# EAGLE library part PIN_HEADER_MALE_1X08_08P (library 180118 Library by matsu)
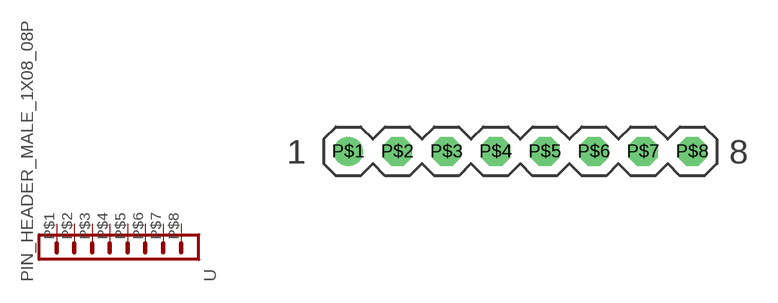
[diagram p44: symbol with the pads of PIN_HEADER_MALE_1X08_08P; footprint PIN_HEADER_MALE_1X08_08P]

Designator prefix -

## PIN_HEADER_MALE_1X08_08P  [PIN_HEADER_MALE_1X08_08P]
P$1  1
P$2  2
P$3  3
P$4  4
P$5  5
P$6  6
P$7  7
P$8  8

## Footprint PIN_HEADER_MALE_1X08_08P (pad centres in mm)
drill 1: P$1 -8.89,0
drill 1 octagon: P$2 -6.35,0; P$3 -3.81,0; P$4 -1.27,0; P$5 1.27,0; P$6 3.81,0; P$7 6.35,0; P$8 8.89,0